# Altium integrated library altera-stratix-iv.IntLib: 38 symbols (part 3 of 21)
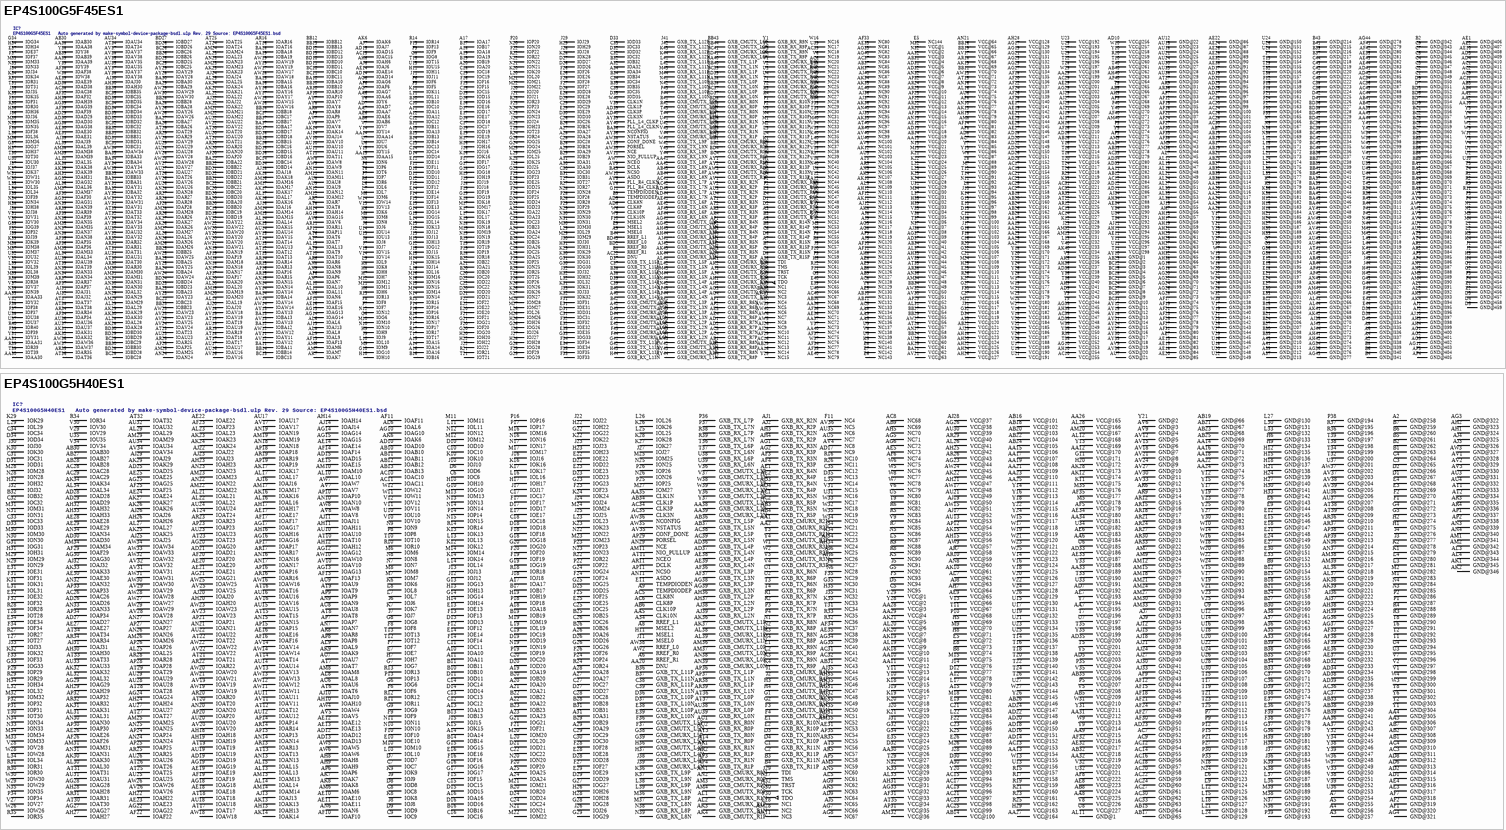
[diagram p18: symbols EP4S100G5F45ES1 to EP4S100G5H40ES1]

## EP4S100G5F45ES1
designator IC?, comment EP4S100G5F45ES1   Auto generated by make-symbol-device-package-bsdl.ulp Rev. 29 Source: EP4S100G5F45ES1.bsd
OC_FARNELL: unknown; OC_NEWARK: unknown
footprint FBGA1932
pins: A2 GND@338 (power), A3 GXB_CMUTX_R7N, A4 GND@337 (power), A5 GXB_RX_R14N, A6 GND@336 (power), A7 GXB_RX_R15N, A8 GND@335 (power), A9 MSEL0, A10 NC4, A11 IOA11, A12 IOA12, A13 IOA13, A14 IOA14, A15 IOA15, A16 IOA16, A17 IOA17, A18 IOA18, A19 IOA19, A20 IOA20, A21 IOA21, A22 IOA22, A23 IOA23, A24 IOA24, A25 IOA25, A26 IOA26, A27 IOA27, A28 IOA28, A29 IOA29, A30 IOA30, A31 IOA31, A32 IOA32, A33 VCC@120 (power), A34 IOA34, A35 NC1, A36 TDI, A37 GND@213 (power), A38 GXB_RX_L15N, A39 GND@212 (power), A40 GXB_RX_L14N, A41 GND@211 (power), A42 GXB_CMUTX_L7N, A43 GND@210 (power), AA1 GND@417 (power), AA2 GND@418 (power), AA3 GXB_TX_R8N, AA4 GXB_TX_R8P, AA5 NC136, AA6 IOAA6, AA7 IOAA7, AA8 NC134, AA9 NC135, AA10 GND@419 (power), AA11 VCC@282 (power), AA12 NC44, AA13 VCC@20 (power), AA14 IOAA14, AA15 IOAA15, AA16 NC14, AA17 VCC@164 (power), AA18 GND@115 (power), AA19 VCC@165 (power), AA20 GND@116 (power), AA21 VCC@166 (power), AA22 GND@117 (power), AA23 VCC@167 (power), AA24 GND@118 (power), AA25 VCC@168 (power), AA26 GND@119 (power), AA27 VCC@169 (power), AA28 GND@120 (power), AA29 VCC@199 (power), AA30 IOAA30, AA31 IOAA31, AA32 VCC@3 (power), AA33 IOAA33, AA34 VCC@277 (power), AA35 GND@292 (power), AA36 NC69, AA37 NC72, AA38 IOAA38, AA39 IOAA39, AA40 NC74, AA41 GXB_TX_L8P, AA42 GXB_TX_L8N, AA43 GND@293 (power), AA44 GND@294 (power), AB1 GXB_RX_R8N, AB2 GXB_RX_R8P, AB3 GND@415 (power), AB4 GND@416 (power), AB5 VCC@266 (power), AB6 IOAB6, AB7 GND@104 (power), AB8 NC126, AB9 NC127, AB10 NC131, AB11 NC132, AB12 VCC@283 (power), AB13 GND@105 (power), AB14 VCC@19 (power), AB15 GND@106 (power), AB16 VCC@212 (power), AB17 GND@107 (power), AB18 VCC@159 (power), AB19 GND@108 (power), AB20 VCC@160 (power), AB21 GND@109 (power), AB22 VCC@121 (power), AB23 GND@2 (power), AB24 VCC@161 (power), AB25 GND@110 (power), AB26 VCC@162 (power), AB27 GND@111 (power), AB28 VCC@163 (power), AB29 NC13, AB30 IOAB30, AB31 VCC@4 (power), AB32 GND@112 (power), AB33 VCC@278 (power), AB34 VCC@41 (power), AB35 GND@113 (power), AB36 NC68, AB37 NC85, AB38 GND@114 (power), AB39 IOAB39, AB40 VCC@262 (power), AB41 GND@290 (power), AB42 GND@291 (power), AB43 GXB_RX_L8P, AB44 GXB_RX_L8N, AC1 GND@411 (power), AC2 GND@412 (power), AC3 GXB_TX_R7N, AC4 GXB_TX_R7P, AC5 NC133, AC6 NC20, AC7 VCC@84 (power), AC8 NC128, AC9 GND@413 (power), AC10 VCC@255 (power), AC11 GND@414 (power), AC12 VCC@284 (power), AC13 VCC@226 (power), AC14 VCC@227 (power), AC15 IOAC15, AC16 NC12, AC17 VCC@153 (power), AC18 GND@98 (power), AC19 VCC@154 (power), AC20 GND@99 (power), AC21 VCC@155 (power), AC22 DNU, AC23 VCC@156 (power), AC24 GND@100 (power), AC25 VCC@157 (power), AC26 GND@101 (power), AC27 VCC@158 (power), AC28 GND@102 (power), AC29 VCC@200 (power), AC30 GND@103 (power), AC31 VCC@221 (power), AC32 VCC@222 (power), AC33 VCC@279 (power), AC34 GND@286 (power), AC35 VCC@247 (power), AC36 GND@287 (power), AC37 NC84, AC38 IOAC38, AC39 NC18, AC40 NC67, AC41 GXB_TX_L7P, AC42 GXB_TX_L7N, AC43 GND@288 (power), AC44 GND@289 (power), AD1 GXB_RX_R7N, AD2 GXB_RX_R7P, AD3 GND@409 (power), AD4 GND@410 (power), AD5 CLK8N, AD6 CLK8P, AD7 IOAD7, AD8 VCC@83 (power), AD9 VCC@242 (power), AD10 VCC@256 (power), AD11 VCC@286 (power), AD12 VCC@285 (power), AD13 VCC@18 (power), AD14 IOAD14, AD15 IOAD15, AD16 VCC@211 (power), AD17 GND@92 (power), AD18 VCC@147 (power), AD19 GND@93 (power), AD20 VCC@148 (power), AD21 GND@94 (power), AD22 VCC@149 (power), AD23 GND@95 (power), AD24 VCC@150 (power), AD25 GND@96 (power), AD26 VCC@151 (power), AD27 GND@97 (power), AD28 VCC@152 (power), AD29 IOAD29, AD30 IOAD30, AD31 VCC@5 (power), AD32 VCC@6 (power), AD33 VCC@281 (power), AD34 VCC@280 (power), AD35 VCC@248 (power), AD36 VCC@238 (power), AD37 VCC@40 (power), AD38 IOAD38, AD39 CLK3P, AD40 CLK3N, AD41 GND@284 (power), AD42 GND@285 (power), AD43 GXB_RX_L7P, AD44 GXB_RX_L7N, AE1 GND@406 (power), AE2 GND@407 (power), AE3 GXB_TX_R6N, AE4 GXB_TX_R6P, AE5 NC130, AE6 IOAE6, AE7 GND@81 (power), AE8 NC124, AE9 NC125, AE10 GND@408 (power), AE11 VCC@295 (power), AE12 VCC@17 (power), AE13 GND@82 (power), AE14 IOAE14, AE15 GND@83 (power), AE16 IOAE16, AE17 VCC@141 (power), AE18 GND@84 (power), AE19 VCC@142 (power), AE20 GND@85 (power), AE21 VCC@143 (power), AE22 GND@86 (power), AE23 VCC@144 (power), AE24 GND@87 (power), AE25 VCC@145 (power), AE26 GND@88 (power), AE27 VCC@146 (power), AE28 GND@89 (power), AE29 VCC@201 (power), AE30 IOAE30, AE31 IOAE31, AE32 GND@90 (power), AE33 NC81, AE34 VCC@289 (power), AE35 GND@281 (power), AE36 NC71, AE38 GND@91 (power), AE39 IOAE39, AE40 NC79, AE41 GXB_TX_L6P, AE42 GXB_TX_L6N, AE43 GND@282 (power), AE44 GND@283 (power), AF1 GXB_RX_R6N, AF2 GXB_RX_R6P, AF3 GND@404 (power), AF4 GND@405 (power), AF5 VCC@275 (power), AF6 IOAF6, AF8 VCC@82 (power), AF9 NC119, AF10 NC121, AF11 NC122, AF12 NC111, AF13 IOAF13, AF14 VCC@81 (power), AF15 IOAF15, AF16 VCC@210 (power), AF17 GND@74 (power), AF18 VCC@135 (power), AF19 GND@75 (power), AF20 VCC@136 (power), AF21 GND@76 (power), AF22 VCC@137 (power), AF23 GND@77 (power), AF24 VCC@138 (power), AF25 GND@78 (power), AF26 VCC@139 (power), AF27 GND@79 (power), AF28 VCC@140 (power), AF29 NC11, AF30 IOAF30, AF31 GND@80 (power), AF32 IOAF32, AF33 NC80, AF34 NC77, AF35 NC78, AF36 NC70, AF37 NC75, AF38 IOAF38, AF39 IOAF39, AF40 VCC@271 (power), AF41 GND@279 (power), AF42 GND@280 (power), AF43 GXB_RX_L6P, AF44 GXB_RX_L6N, AG1 GND@400 (power), AG2 GND@401 (power), AG3 GXB_CMUTX_R3N, AG4 GXB_CMUTX_R3P, AG5 NC117, AG6 IOAG6, AG7 IOAG7, AG8 NC118, AG9 GND@402 (power), AG10 VCC@253 (power), AG11 GND@403 (power), AG13 IOAG13, AG14 IOAG14, AG15 IOAG15, AG16 GND@67 (power), AG17 VCC@129 (power), AG18 GND@68 (power), AG19 VCC@130 (power), AG20 GND@69 (power), AG21 VCC@131 (power), AG22 GND@70 (power), AG23 VCC@132 (power), AG24 GND@71 (power), AG25 VCC@133 (power), AG26 GND@72 (power), AG27 VCC@134 (power), AG28 GND@73 (power), AG29 VCC@202 (power), AG31 IOAG31, AG32 IOAG32, AG33 NC82, AG34 GND@275 (power), AG35 VCC@245 (power), AG36 GND@276 (power), AG37 VCC@39 (power), AG38 IOAG38, AG39 IOAG39, AG40 NC83, AG41 GXB_CMUTX_L3P, AG42 GXB_CMUTX_L3N, AG43 GND@277 (power), AG44 GND@278 (power), AH1 GXB_CMURX_R3N, AH2 GXB_CMURX_R3P, AH3 GND@398 (power), AH4 GND@399 (power), AH5 VCC@267 (power), AH6 IOAH6, AH7 GND@56 (power), AH8 NC123, AH9 VCC@241 (power), AH10 VCC@254 (power), AH11 VCC@294 (power), AH12 NC110, AH13 GND@57 (power), AH14 IOAH14, AH15 VCC@79 (power), AH16 VCC@209 (power), AH17 GND@58 (power), AH18 VCC@123 (power), AH19 GND@59 (power), AH20 VCC@124 (power), AH21 GND@60 (power), AH22 VCC@125 (power), AH23 GND@61 (power), AH24 VCC@126 (power), AH25 GND@62 (power), AH26 VCC@127 (power), AH27 GND@63 (power), AH28 VCC@128 (power), AH29 GND@64 (power), AH30 IOAH30, AH31 IOAH31, AH32 GND@65 (power), AH33 VCC@43 (power), AH34 VCC@288 (power), AH35 VCC@246 (power), AH36 VCC@237 (power), AH37 NC86, AH38 GND@66 (power), AH39 IOAH39, AH40 VCC@263 (power), AH41 GND@273 (power), AH42 GND@274 (power), AH43 GXB_CMURX_L3P, AH44 GXB_CMURX_L3N, AJ1 GND@395 (power), AJ2 GND@396 (power), AJ3 GXB_CMUTX_R2N, AJ4 GXB_CMUTX_R2P, AJ5 NC120, AJ6 IOAJ6, AJ7 IOAJ7, AJ8 NC115, AJ9 NC116, AJ10 GND@397 (power), AJ11 VCC@293 (power), AJ12 NC113, AJ13 IOAJ13, AJ14 IOAJ14, AJ15 GND@55 (power), AJ16 IOAJ16, AJ17 VCC@208 (power), AJ18 IOAJ18, AJ19 VCC@207 (power), AJ20 IOAJ20, AJ21 VCC@206 (power), AJ22 IOAJ22, AJ23 VCC@122 (power), AJ24 IOAJ24, AJ25 VCC@205 (power), AJ26 NC9, AJ27 VCC@204 (power), AJ28 NC10, AJ29 VCC@203 (power), AJ30 IOAJ30, AJ31 IOAJ31, AJ32 IOAJ32, AJ33 NC95, AJ34 VCC@287 (power), AJ35 GND@270 (power), AJ36 NC91, AJ37 NC92, AJ38 VCC@38 (power), AJ39 IOAJ39, AJ40 NC87, AJ41 GXB_CMUTX_L2P, AJ42 GXB_CMUTX_L2N, AJ43 GND@271 (power), AJ44 GND@272 (power), AK1 GXB_CMURX_R2N, AK2 GXB_CMURX_R2P, AK3 GND@393 (power), AK4 GND@394 (power), AK5 VCC@236 (power), AK6 IOAK6, AK7 IOAK7, AK8 NC114, AK9 NC107, AK10 NC108, AK11 NC112, AK12 NC102, AK13 VCC@78 (power), AK14 IOAK14, AK15 IOAK15, AK16 IOAK16, AK17 IOAK17, AK18 IOAK18, AK19 VCC@69 (power), AK20 IOAK20, AK21 IOAK21, AK22 IOAK22, AK23 IOAK23, AK24 IOAK24, AK25 VCC@61 (power), AK26 IOAK26, AK27 IOAK27, AK28 IOAK28, AK29 IOAK29, AK30 IOAK30, AK31 IOAK31, AK32 IOAK32, AK33 NC96, AK34 NC88, AK35 NC89, AK36 NC93, AK38 IOAK38, AK39 IOAK39, AK40 VCC@234 (power), AK41 GND@268 (power), AK42 GND@269 (power), AK43 GXB_CMURX_L2P, AK44 GXB_CMURX_L2N, AL1 GND@391 (power), AL2 GND@392 (power), AL3 GXB_TX_R5N, AL4 GXB_TX_R5P, AL5 NC109, AL6 IOAL6, AL7 GND@45 (power), AL8 IOAL8, AL9 IOAL9, AL10 IOAL10, AL11 IOAL11, AL12 GND@46 (power), AL13 IOAL13, AL14 IOAL14, AL15 GND@47 (power), AL16 VCC@74 (power), AL17 IOAL17, AL18 GND@48 (power), AL19 IOAL19, AL20 IOAL20, AL21 GND@49 (power), AL22 IOAL22, AL23 IOAL23, AL24 GND@50 (power), AL25 IOAL25, AL26 IOAL26, AL27 GND@51 (power), AL28 IOAL28, AL29 IOAL29, AL30 GND@52 (power), AL31 VCC@53 (power), AL32 IOAL32, AL33 GND@53 (power), AL34 IOAL34, AL35 IOAL35, AL36 IOAL36, AL37 VCC@42 (power), AL38 GND@54 (power), AL39 IOAL39, AL40 NC90, AL41 GXB_TX_L5P, AL42 GXB_TX_L5N, AL43 GND@266 (power), AL44 GND@267 (power), AM1 GXB_RX_R5N, AM2 GXB_RX_R5P, AM3 GND@389 (power), AM4 GND@390 (power), AM5 VCC@276 (power), AM6 IOAM6, AM7 IOAM7, AM8 VCC@80 (power), AM9 GND@43 (power), AM11 IOAM11, AM12 IOAM12, AM13 VCC@231 (power), AM14 IOAM14, AM15 IOAM15, AM16 IOAM16, AM17 IOAM17, AM18 IOAM18, AM19 IOAM19, AM20 IOAM20, AM21 IOAM21, AM22 IOAM22, AM23 IOAM23, AM24 IOAM24, AM25 IOAM25, AM26 IOAM26, AM27 IOAM27, AM28 IOAM28, AM29 IOAM29, AM30 IOAM30, AM31 IOAM31, AM32 VCC@230 (power), AM33 IOAM33, AM34 VCC@48 (power), AM35 IOAM35, AM36 GND@44 (power), AM37 IOAM37, AM38 IOAM38, AM39 IOAM39, AM40 VCC@272 (power), AM41 GND@264 (power), AM42 GND@265 (power), AM43 GXB_RX_L5P, AM44 GXB_RX_L5N, AN1 GND@387 (power), AN2 GND@388 (power), AN3 GXB_TX_R4N, AN4 GXB_TX_R4P, AN5 NC106, AN6 IOAN6, AN7 IOAN7, AN8 IOAN8, AN9 IOAN9, AN10 VCC@77 (power), AN11 IOAN11, AN12 IOAN12, AN13 VCC@16 (power), AN14 IOAN14, AN15 IOAN15, AN16 VCC@73 (power), AN17 IOAN17, AN18 IOAN18, AN19 IOAN19, AN20 IOAN20, AN21 VCC@64 (power), AN23 IOAN23, AN24 IOAN24, AN26 IOAN26, AN27 VCC@58 (power), AN28 IOAN28, AN29 IOAN29, AN30 IOAN30, AN31 IOAN31, AN32 VCC@7 (power), AN33 IOAN33, AN34 IOAN34, AN35 IOAN35, AN36 VCC@47 (power), AN37 IOAN37, AN38 IOAN38, AN39 IOAN39, AN40 NC94, AN41 GXB_TX_L4P, AN42 GXB_TX_L4N, AN43 GND@262 (power), AN44 GND@263 (power), AP1 GXB_RX_R4N, AP2 GXB_RX_R4P, AP3 GND@385 (power), AP4 GND@386 (power), AP5 VCC@268 (power), AP6 IOAP6, AP7 GND@33 (power), AP8 VCC@76 (power), AP9 IOAP9, AP10 IOAP10, AP11 IOAP11, AP12 GND@34 (power), AP13 VCC@15 (power), AP15 GND@35 (power), AP16 IOAP16, AP17 IOAP17, AP18 GND@36 (power), AP19 IOAP19, AP20 IOAP20, AP21 GND@37 (power), AP22 VCC@12 (power), AP23 VCC@11 (power), AP24 GND@38 (power), AP25 IOAP25, AP27 GND@39 (power), AP28 IOAP28, AP29 VCC@52 (power), AP30 GND@40 (power), AP32 VCC@8 (power), AP33 GND@41 (power), AP34 IOAP34, AP35 IOAP35, AP36 IOAP36, AP37 IOAP37, AP38 GND@42 (power), AP39 IOAP39, AP40 VCC@264 (power), AP41 GND@260 (power), AP42 GND@261 (power), AP43 GXB_RX_L4P, AP44 GXB_RX_L4N, AR1 GND@383 (power), AR2 GND@384 (power), AR3 GXB_TX_R3N, AR4 GXB_TX_R3P, AR5 NC105, AR6 IOAR6, AR7 IOAR7, AR8 IOAR8, AR9 GND@31 (power), AR10 IOAR10, AR11 IOAR11, AR12 VCC@225 (power), AR13 IOAR13, AR14 IOAR14, AR15 IOAR15, AR16 IOAR16, AR18 VCC@68 (power), AR19 IOAR19, AR20 IOAR20, AR21 VCC@14 (power), AR22 VCC@13 (power), AR23 VCC@10 (power), AR24 VCC@9 (power), AR25 IOAR25, AR26 IOAR26, AR27 IOAR27, AR28 IOAR28, AR29 IOAR29, AR30 IOAR30, AR31 IOAR31, AR32 IOAR32, AR33 VCC@223 (power), AR34 IOAR34, AR35 IOAR35, AR36 GND@32 (power), AR37 IOAR37, AR38 VCC@46 (power), AR39 IOAR39, AR40 NC98, AR41 GXB_TX_L3P, AR42 GXB_TX_L3N, AR43 GND@258 (power), AR44 GND@259 (power), AT1 GXB_RX_R3N, AT2 GXB_RX_R3P, AT3 GND@381 (power), AT4 GND@382 (power), AT5 NC104, AT6 IOAT6, AT7 IOAT7, AT8 IOAT8, AT9 IOAT9, AT10 IOAT10, AT11 IOAT11, AT12 IOAT12, AT13 IOAT13, AT14 IOAT14, AT15 VCC@72 (power), AT16 IOAT16, AT17 IOAT17, AT18 IOAT18, AT19 IOAT19, AT20 IOAT20, AT21 IOAT21, AT22 VCC@224 (power), AT23 IOAT23, AT24 IOAT24, AT25 IOAT25, AT26 IOAT26, AT27 GND@30 (power), AT28 VCC@57 (power), AT29 IOAT29, AT30 IOAT30, AT31 IOAT31, AT32 IOAT32, AT33 IOAT33, AT34 IOAT34, AT35 VCC@45 (power), AT36 IOAT36, AT37 IOAT37, AT38 IOAT38, AT39 IOAT39, AT40 NC97, AT41 GND@256 (power), AT42 GND@257 (power), AT43 GXB_RX_L3P, AT44 GXB_RX_L3N, AU1 GND@379 (power), AU2 GND@380 (power), AU3 GXB_TX_R2N, AU4 GXB_TX_R2P, AU5 NC103, AU6 VCC@75 (power), AU7 GND@21 (power), AU8 IOAU8, AU9 IOAU9, AU10 IOAU10, AU11 IOAU11, AU12 GND@22 (power), AU13 IOAU13, AU14 IOAU14, AU15 GND@23 (power), AU16 IOAU16, AU17 IOAU17, AU18 GND@24 (power), AU19 IOAU19, AU20 IOAU20, AU21 GND@25 (power), AU22 IOAU22, AU23 IOAU23, AU24 GND@26 (power), AU25 VCC@60 (power), AU26 IOAU26, AU27 IOAU27, AU28 IOAU28, AU29 IOAU29, AU30 GND@27 (power), AU31 IOAU31, AU32 IOAU32, AU33 GND@28 (power), AU34 IOAU34, AU35 IOAU35, AU36 IOAU36, AU37 IOAU37, AU38 GND@29 (power), AU39 IOAU39, AU40 NC100, AU41 GXB_TX_L2P, AU42 GXB_TX_L2N, AU43 GND@254 (power), AU44 GND@255 (power), AV1 GXB_RX_R2N, AV2 GXB_RX_R2P, AV3 GND@377 (power), AV4 GND@378 (power), AV5 NC101, AV6 IOAV6, AV7 IOAV7, AV8 IOAV8, AV9 GND@19 (power), AV10 IOAV10, AV11 NIO_PULLUP, AV12 IOAV12, AV13 IOAV13, AV14 IOAV14, AV15 IOAV15, AV16 IOAV16, AV17 VCC@67 (power), AV18 IOAV18, AV19 IOAV19, AV20 IOAV20, AV21 VCC@63 (power), AV22 IOAV22, AV23 IOAV23, AV24 IOAV24, AV25 IOAV25, AV26 IOAV26, AV27 IOAV27, AV28 IOAV28, AV29 IOAV29, AV30 VCC@51 (power), AV31 IOAV31, AV32 IOAV32, AV33 IOAV33, AV34 IOAV34, AV35 IOAV35, AV36 GND@20 (power), AV37 IOAV37, AV38 IOAV38, AV39 VCC@44 (power), AV40 NC99, AV41 GND@252 (power), AV42 GND@253 (power), AV43 GXB_RX_L2P, AV44 GXB_RX_L2N, AW1 GND@375 (power), AW2 GND@376 (power), AW3 GXB_CMUTX_R1N, AW4 GXB_CMUTX_R1P, AW5 NC8, AW6 NC7, AW7 NCEO, AW8 IOAW8, AW9 IOAW9, AW10 ASDO, AW11 NC3, AW12 IOAW12, AW13 VCC@71 (power), AW14 IOAW14, AW15 IOAW15, AW16 IOAW16, AW17 IOAW17, AW18 IOAW18, AW19 IOAW19, AW20 IOAW20, AW21 IOAW21, AW22 IOAW22, AW23 IOAW23, AW24 IOAW24, AW25 IOAW25, AW26 IOAW26, AW27 VCC@56 (power), AW28 IOAW28, AW29 IOAW29, AW30 IOAW30, AW31 IOAW31, AW32 VCC@50 (power), AW33 IOAW33, AW34 IOAW34, AW35 NCE, AW36 IOAW36, AW37 IOAW37, AW38 CONF_DONE, AW39 NC5, AW40 NC6, AW41 GXB_CMUTX_L1P, AW42 GXB_CMUTX_L1N, AW43 GND@250 (power), AW44 GND@251 (power), AY1 GXB_CMURX_R1N, AY2 GXB_CMURX_R1P, AY3 GND@373 (power), AY4 GND@374 (power), AY5 PLL_R4_CLKN, AY6 PLL_R4_CLKP, AY7 IOAY7, AY8 IOAY8, AY9 DCLK, AY10 GND@1 (power), AY11 IOAY11, AY12 GND@11 (power), AY13 IOAY13, AY14 IOAY14, AY15 GND@12 (power), AY16 IOAY16, AY17 IOAY17, AY18 GND@13 (power), AY19 IOAY19, AY20 IOAY20, AY21 GND@14 (power), AY22 IOAY22, AY23 IOAY23, AY24 GND@15 (power), AY25 IOAY25, AY26 IOAY26, AY27 GND@16 (power), AY28 IOAY28, AY29 IOAY29, AY30 GND@17 (power), AY31 IOAY31, AY32 IOAY32, AY33 GND@18 (power), AY34 IOAY34, AY35 PORSEL, AY36 NSTATUS, AY37 IOAY37, AY38 IOAY38, AY39 PLL_L4_CLKP, AY40 PLL_L4_CLKN, AY41 GND@248 (power), AY42 GND@249 (power), AY43 GXB_CMURX_L1P, AY44 GXB_CMURX_L1N, B1 RREF_R1, B2 GND@342 (power), B3 GXB_CMUTX_R7P, B4 GND@341 (power), B5 GXB_RX_R14P, B6 GND@340 (power), B7 GXB_RX_R15P, B8 GND@339 (power), B9 TEMPDIODEP, B10 IOB10, B11 IOB11, B12 GND@202 (power), B13 IOB13, B14 IOB14, B15 GND@203 (power), B16 IOB16, B17 IOB17, B18 GND@204 (power), B19 IOB19, B20 IOB20, B21 GND@205 (power), B22 IOB22, B23 IOB23, B24 GND@206 (power), B25 IOB25, B26 IOB26, B27 GND@207 (power), B28 IOB28, B29 IOB29, B30 GND@208 (power), B31 IOB31, B32 IOB32, B33 GND@209 (power), B34 IOB34, B35 IOB35, B36 TMS, B37 GND@217 (power), B38 GXB_RX_L15P, B39 GND@216 (power), B40 GXB_RX_L14P, B41 GND@215 (power), B42 GXB_CMUTX_L7P, B43 GND@214 (power), B44 RREF_L1, BA1 GND@367 (power), BA2 GND@368 (power), BA3 GND@369 (power), BA4 GND@370 (power), BA5 GXB_TX_R1P, BA6 GND@371 (power), BA7 GXB_TX_R0P, BA8 GND@372 (power), BA9 NCSO, BA10 IOBA10, BA11 IOBA11, BA12 IOBA12, BA13 IOBA13, BA14 IOBA14, BA15 IOBA15, BA16 IOBA16, BA17 IOBA17, BA18 IOBA18, BA19 IOBA19, BA20 IOBA20, BA21 VCC@62 (power), BA22 IOBA22, BA23 IOBA23, BA24 IOBA24, BA25 IOBA25, BA26 IOBA26, BA27 IOBA27, BA28 IOBA28, BA29 IOBA29, BA30 IOBA30, BA31 IOBA31, BA32 IOBA32, BA33 IOBA33, BA34 IOBA34, BA35 NC2, BA36 NCONFIG, BA37 GND@242 (power), BA38 GXB_TX_L0P, BA39 GND@243 (power), BA40 GXB_TX_L1P, BA41 GND@244 (power), BA42 GND@245 (power), BA43 GND@246 (power), BA44 GND@247 (power), BB1 GXB_CMURX_R0N, BB2 GXB_CMURX_R0P, BB3 GND@362 (power), BB4 GND@363 (power), BB5 GXB_TX_R1N, BB6 GND@364 (power), BB7 GXB_TX_R0N, BB8 GND@365 (power), BB9 GND@366 (power), BB10 IOBB10, BB11 VCC@70 (power), BB12 IOBB12, BB13 IOBB13, BB14 IOBB14, BB15 IOBB15, BB16 VCC@65 (power), BB17 IOBB17, BB18 IOBB18, BB19 VCC@66 (power), BB20 IOBB20, BB21 IOBB21, BB22 IOBB22, BB23 IOBB23, BB24 VCC@59 (power), BB25 IOBB25, BB26 IOBB26, BB27 VCC@54 (power), BB28 IOBB28, BB29 VCC@55 (power), BB30 IOBB30, BB31 IOBB31, BB32 IOBB32, BB33 IOBB33, BB34 VCC@49 (power), BB35 IOBB35, BB36 GND@237 (power), BB37 GND@238 (power), BB38 GXB_TX_L0N, BB39 GND@239 (power), BB40 GXB_TX_L1N, BB41 GND@240 (power), BB42 GND@241 (power), BB43 GXB_CMUTX_L0P, BB44 GXB_CMUTX_L0N, BC1 GND@356 (power), BC2 GND@357 (power), BC3 GND@358 (power), BC4 GXB_CMUTX_R0P, BC5 GND@359 (power), BC6 GXB_RX_R1P, BC7 GND@360 (power), BC8 GXB_RX_R0P, BC9 GND@361 (power), BC10 IOBC10, BC11 IOBC11, BC12 GND@3 (power), BC13 IOBC13, BC14 IOBC14, BC15 GND@4 (power), BC16 IOBC16, BC17 IOBC17, BC18 GND@5 (power), BC19 IOBC19, BC20 IOBC20, BC21 GND@6 (power), BC22 IOBC22, BC23 IOBC23, BC24 GND@7 (power), BC25 IOBC25, BC26 IOBC26, BC27 GND@8 (power), BC28 IOBC28, BC29 IOBC29, BC30 GND@9 (power), BC31 IOBC31, BC32 IOBC32, BC33 GND@10 (power), BC34 IOBC34, BC35 IOBC35, BC36 GND@231 (power), BC37 GXB_RX_L0P, BC38 GND@232 (power), BC39 GXB_RX_L1P, BC40 GND@233 (power), BC41 GXB_CMURX_L0P, BC42 GND@234 (power), BC43 GND@235 (power), BC44 GND@236 (power), BD2 RREF_R0, BD3 GND@352 (power), BD4 GXB_CMUTX_R0N, BD5 GND@353 (power), BD6 GXB_RX_R1N, BD7 GND@354 (power), BD8 GXB_RX_R0N, BD9 GND@355 (power), BD10 IOBD10, BD11 IOBD11, BD12 IOBD12, BD13 IOBD13, BD14 IOBD14, BD15 IOBD15, BD16 IOBD16, BD17 IOBD17, BD18 IOBD18, BD19 IOBD19, BD20 IOBD20, BD21 IOBD21, BD22 IOBD22, BD23 IOBD23, BD24 IOBD24, BD25 IOBD25, BD26 IOBD26, BD27 IOBD27, BD28 IOBD28, BD29 IOBD29, BD30 IOBD30, BD31 IOBD31, BD32 IOBD32, BD33 IOBD33, BD34 IOBD34, BD35 IOBD35, BD36 GND@227 (power), BD37 GXB_RX_L0N, BD38 GND@228 (power), BD39 GXB_RX_L1N, BD40 GND@229 (power), BD41 GXB_CMURX_L0N, BD42 GND@230 (power), BD43 RREF_L0, C1 GND@349 (power), C2 GND@348 (power), C3 GND@347 (power), C4 GND@346 (power), C5 GND@345 (power), C6 GXB_TX_R14N, C7 GND@344 (power), C8 GXB_TX_R15N, C9 GND@343 (power), C10 IOC10, C11 VCC@99 (power), C12 IOC12, C13 IOC13, C14 IOC14, C15 IOC15, C16 VCC@104 (power), C17 IOC17, C18 IOC18, C19 IOC19, C20 IOC20, C21 VCC@107 (power), C22 IOC22, C23 IOC23, C24 IOC24, C25 IOC25, C26 IOC26, C27 VCC@115 (power), C28 IOC28, C29 IOC29, C30 IOC30, C31 IOC31, C32 IOC32, C33 IOC33, C34 IOC34, C35 IOC35, C36 GND@224 (power), C37 GXB_TX_L15N, C38 GND@223 (power), C39 GXB_TX_L14N, C40 GND@222 (power), C41 GND@221 (power), C42 GND@220 (power), C43 GND@219 (power), C44 GND@218 (power), D1 GXB_CMURX_R7N, D2 GXB_CMURX_R7P, D3 GND@457 (power), D4 GND@458 (power), D5 GND@459 (power), D6 GXB_TX_R14P, D7 GND@351 (power), D8 GXB_TX_R15P, D9 GND@350 (power), D10 IOD10, D11 IOD11, D12 IOD12, D13 VCC@98 (power), D14 IOD14, D15 IOD15, D16 IOD16, D17 IOD17, D18 IOD18, D19 IOD19, D20 IOD20, D21 IOD21, D22 IOD22, D23 IOD23, D24 IOD24, D25 IOD25, D26 IOD26, D27 IOD27, D28 IOD28, D29 IOD29, D30 IOD30, D31 IOD31, D32 IOD32, D33 IOD33, D34 VCC@119 (power), D35 IOD35, D36 GND@332 (power), D37 GXB_TX_L15P, D38 GND@333 (power), D39 GXB_TX_L14P, D40 GND@334 (power), D41 GND@226 (power), D42 GND@225 (power), D43 GXB_CMURX_L7P, D44 GXB_CMURX_L7N, E1 GND@455 (power), E2 GND@456 (power), E3 GXB_CMUTX_R6N, E4 GXB_CMUTX_R6P, E5 NC144, E6 NC143, E7 NC142, E8 NC141, E9 MSEL1, E10 VCC@97 (power), E11 IOE11, E12 GND@194 (power), E13 IOE13, E14 IOE14, E15 GND@195 (power), E16 IOE16, E17 IOE17, E18 GND@196 (power), E19 IOE19, E20 IOE20, E21 GND@197 (power), E22 IOE22, E23 VCC@110 (power), E24 GND@198 (power), E25 IOE25, E26 IOE26, E27 GND@199 (power), E28 IOE28, E29 IOE29, E30 GND@200 (power), E31 IOE31, E32 IOE32, E33 GND@201 (power), E34 IOE34, E35 IOE35, E36 TDO (out), E37 IOE37, E38 NC21, E39 NC65, E40 NC64, E41 GXB_CMUTX_L6P, E42 GXB_CMUTX_L6N, E43 GND@330 (power), E44 GND@331 (power), F1 GXB_CMURX_R6N, F2 GXB_CMURX_R6P, F3 GND@453 (power), F4 GND@454 (power), F5 IOF5, F6 IOF6, F7 IOF7, F8 IOF8, F9 IOF9, F10 MSEL2, F11 IOF11, F12 IOF12, F13 IOF13, F14 IOF14, F15 IOF15, F16 IOF16, F17 IOF17, F18 VCC@103 (power), F19 IOF19, F20 IOF20, F21 IOF21, F22 IOF22, F23 IOF23, F24 IOF24, F25 IOF25, F26 IOF26, F27 IOF27, F28 IOF28, F29 IOF29, F30 VCC@114 (power), F31 IOF31, F32 IOF32, F33 IOF33, F34 IOF34, F35 IOF35, F36 TRST, F37 IOF37, F38 IOF38, F39 IOF39, F40 NC24, F41 GND@328 (power), F42 GND@329 (power), F43 GXB_CMURX_L6P, F44 GXB_CMURX_L6N, G1 GND@451 (power), G2 GND@452 (power), G3 GXB_TX_R13N, G4 GXB_TX_R13P, G5 NC63, G6 IOG6, G7 GND@190 (power), G8 IOG8, G9 GND@191 (power), G10 IOG10, G11 TEMPDIODEN, G12 IOG12, G13 VCC@96 (power), G14 IOG14, G15 IOG15, G16 VCC@102 (power), G17 IOG17, G18 IOG18, G19 IOG19, G20 IOG20, G21 IOG21, G22 VCC@106 (power), G23 IOG23, G24 IOG24, G25 IOG25, G26 IOG26, G27 VCC@113 (power), G28 IOG28, G29 IOG29, G30 IOG30, G31 IOG31, G32 VCC@118 (power), G33 IOG33, G34 IOG34, G35 TCK, G36 GND@192 (power), G37 IOG37, G38 GND@193 (power), G39 IOG39, G40 NC26, G41 GXB_TX_L13P, G42 GXB_TX_L13N, G43 GND@326 (power), G44 GND@327 (power), H1 GXB_RX_R13N, H2 GXB_RX_R13P, H3 GND@449 (power), H4 GND@450 (power), H5 NC60, H6 IOH6, H7 IOH7, H8 IOH8, H9 IOH9, H10 IOH10, H11 IOH11, H12 GND@182 (power), H13 IOH13, H14 IOH14, H15 GND@183 (power), H16 IOH16, H17 IOH17, H18 GND@184 (power), H19 IOH19, H20 IOH20, H21 GND@185 (power), H22 IOH22, H23 IOH23, H24 GND@186 (power), H25 VCC@109 (power), H26 IOH26, H27 GND@187 (power), H28 IOH28, H29 IOH29, H30 GND@188 (power), H31 IOH31, H32 IOH32, H33 GND@189 (power), H34 IOH34, H35 VCC@32 (power), H36 IOH36, H37 IOH37, H38 IOH38, H39 VCC@33 (power), H40 NC22, H41 GND@324 (power), H42 GND@325 (power), H43 GXB_RX_L13P, H44 GXB_RX_L13N, J1 GND@447 (power), J2 GND@448 (power), J3 GXB_TX_R12N, J4 GXB_TX_R12P, J5 NC57, J6 IOJ6, J7 IOJ7, J8 IOJ8, J9 IOJ9, J10 VCC@94 (power), J11 IOJ11, J12 IOJ12, J13 IOJ13, J14 IOJ14, J15 IOJ15, J16 IOJ16, J17 VCC@101 (power), J18 IOJ18, J19 IOJ19, J20 IOJ20, J21 IOJ21, J22 IOJ22, J23 VCC@229 (power), J24 IOJ24, J25 IOJ25, J26 IOJ26, J27 IOJ27, J28 IOJ28, J29 IOJ29, J30 IOJ30, J31 VCC@117 (power), J32 IOJ32, J33 IOJ33, J34 IOJ34, J35 IOJ35, J36 IOJ36, J37 IOJ37, J38 IOJ38, J39 IOJ39, J40 NC23, J41 GXB_TX_L12P, J42 GXB_TX_L12N, J43 GND@322 (power), J44 GND@323 (power), K1 GXB_RX_R12N, K2 GXB_RX_R12P, K3 GND@445 (power), K4 GND@446 (power), K5 NC140, K6 IOK6, K7 GND@178 (power), K8 IOK8, K9 GND@179 (power), K11 IOK11, K12 VCC@228 (power), K13 IOK13, K14 VCC@95 (power), K15 IOK15, K16 IOK16, K17 IOK17, K18 IOK18, K19 IOK19, K20 IOK20, K21 VCC@23 (power), K22 VCC@24 (power), K23 VCC@27 (power), K24 VCC@28 (power), K25 IOK25, K26 IOK26, K27 VCC@112 (power), K28 IOK28, K29 IOK29, K30 IOK30, K31 IOK31, K32 IOK32, K33 VCC@220 (power), K34 IOK34, K35 IOK35, K36 GND@180 (power), K37 IOK37, K38 GND@181 (power), K39 IOK39, K40 NC35, K41 GND@320 (power), K42 GND@321 (power), K43 GXB_RX_L12P, K44 GXB_RX_L12N, L1 GND@443 (power), L2 GND@444 (power), L3 GXB_TX_R11N, L4 GXB_TX_R11P, L5 NC50, L6 IOL6, L7 IOL7, L8 VCC@93 (power), L9 IOL9, L10 IOL10, L11 IOL11, L12 GND@170 (power), L13 VCC@232 (power), L14 IOL14, L15 GND@171 (power), L16 IOL16, L17 IOL17, L18 GND@172 (power), L20 IOL20, L21 GND@173 (power), L22 VCC@25 (power), L23 VCC@26 (power), L24 GND@174 (power), L25 IOL25, L26 IOL26, L27 GND@175 (power), L29 IOL29, L30 GND@176 (power), L32 IOL32, L33 GND@177 (power), L34 IOL34, L35 IOL35, L36 IOL36, L37 VCC@31 (power), L38 IOL38, L39 IOL39, L40 NC36, L41 GXB_TX_L11P, L42 GXB_TX_L11N, L43 GND@318 (power), L44 GND@319 (power), M1 GXB_RX_R11N, M2 GXB_RX_R11P, M3 GND@441 (power), M4 GND@442 (power), M5 NC53, M6 IOM6, M7 VCC@89 (power), M8 IOM8, M9 IOM9, M10 IOM10, M11 IOM11, M12 IOM12, M13 VCC@22 (power), M14 IOM14, M16 IOM16, M17 IOM17, M18 VCC@100 (power), M19 IOM19, M21 IOM21, M22 IOM22, M24 VCC@108 (power), M25 IOM25, M26 IOM26, M27 IOM27, M28 IOM28, M29 IOM29, M30 IOM30, M31 VCC@116 (power), M32 VCC@1 (power), M33 IOM33, M34 VCC@30 (power), M35 IOM35, M36 IOM36, M37 IOM37, M38 IOM38, M39 IOM39, M40 NC32, M41 GND@316 (power), M42 GND@317 (power), M43 GXB_RX_L11P, M44 GXB_RX_L11N, N1 GND@439 (power), N2 GND@440 (power), N3 GXB_TX_R10N, N4 GXB_TX_R10P, N5 NC54, N6 ION6, N7 GND@166 (power), N8 ION8, N9 GND@167 (power), N10 ION10, N11 VCC@92 (power), N12 ION12, N13 VCC@21 (power), N14 ION14, N15 ION15, N16 ION16, N17 ION17, N18 ION18, N19 ION19, N20 ION20, N21 ION21, N22 ION22, N23 ION23, N24 ION24, N25 ION25, N26 ION26, N27 ION27, N28 ION28, N29 ION29, N30 ION30, N31 ION31, N32 VCC@2 (power), N33 ION33, N34 ION34, N35 ION35, N36 GND@168 (power), N37 VCC@37 (power), N38 GND@169 (power), N39 ION39, N40 NC41, N41 GXB_TX_L10P, N42 GXB_TX_L10N, N43 GND@314 (power), N44 GND@315 (power), P1 GXB_RX_R10N, P2 GXB_RX_R10P, P3 GND@437 (power), P4 GND@438 (power), P5 VCC@273 (power), P6 IOP6, P7 IOP7, P8 NC55, P9 NC59, P10 NC58, P11 NC62, P12 GND@158 (power), P13 IOP13, P14 IOP14, P15 GND@159 (power), P16 IOP16, P17 IOP17, P18 GND@160 (power), P19 IOP19, P20 IOP20, P21 GND@161 (power), P22 IOP22, P23 IOP23, P24 GND@162 (power), P25 IOP25, P26 IOP26, P27 GND@163 (power), P28 IOP28, P29 IOP29, P30 GND@164 (power), P31 IOP31, P32 IOP32, P33 GND@165 (power), P34 NC25, P35 NC29, P36 NC28, P37 IOP37, P38 IOP38, P39 IOP39, P40 VCC@269 (power), P41 GND@312 (power), P42 GND@313 (power), P43 GXB_RX_L10P, P44 GXB_RX_L10N, R1 GND@433 (power), R2 GND@434 (power), R3 GXB_CMUTX_R5N, R4 GXB_CMUTX_R5P, R5 NC45, R6 IOR6, R8 NC56, R9 GND@435 (power), R10 VCC@259 (power), R11 GND@436 (power), R12 NC61, R13 IOR13, R14 IOR14, R15 IOR15, R16 IOR16, R17 IOR17, R18 IOR18, R19 IOR19, R20 VCC@105 (power), R21 IOR21, R22 IOR22, R23 IOR23, R24 IOR24, R25 IOR25, R26 VCC@111 (power), R27 IOR27, R28 IOR28, R29 VCC@219 (power), R30 IOR30, R31 IOR31, R33 NC27, R34 GND@308 (power), R35 VCC@251 (power), R36 GND@309 (power), R37 NC39, R38 IOR38, R39 IOR39, R40 IOR40, R41 GXB_CMUTX_L5P, R42 GXB_CMUTX_L5N, R43 GND@310 (power), R44 GND@311 (power), T1 GXB_CMURX_R5N, T2 GXB_CMURX_R5P, T3 GND@431 (power), T4 GND@432 (power), T5 VCC@265 (power), T6 IOT6, T7 GND@153 (power), T8 VCC@88 (power), T9 VCC@244 (power), T10 VCC@260 (power), T11 VCC@298 (power), T12 VCC@90 (power), T13 GND@154 (power), T14 VCC@91 (power), T15 IOT15, T16 VCC@214 (power), T17 IOT17, T18 VCC@215 (power), T19 IOT19, T20 VCC@216 (power), T21 IOT21, T22 VCC@196 (power), T23 IOT23, T24 VCC@217 (power), T25 IOT25, T26 VCC@218 (power), T27 IOT27, T28 VCC@197 (power), T29 GND@155 (power), T30 IOT30, T31 IOT31, T32 GND@156 (power), T33 NC30, T34 VCC@292 (power), T35 VCC@252 (power), T36 VCC@240 (power), T37 VCC@36 (power), T38 GND@157 (power), T39 IOT39, T40 VCC@261 (power), T41 GND@306 (power), T42 GND@307 (power), T43 GXB_CMURX_L5P, T44 GXB_CMURX_L5N, U1 GND@428 (power), U2 GND@429 (power), U3 GXB_CMUTX_R4N, U4 GXB_CMUTX_R4P, U5 NC139, U6 IOU6, U7 IOU7, U8 NC42, U9 NC137, U10 GND@430 (power), U11 VCC@297 (power), U12 NC51, U13 IOU13, U14 IOU14, U15 IOU15, U16 GND@146 (power), U17 VCC@189 (power), U18 GND@147 (power), U19 VCC@190 (power), U20 GND@148 (power), U21 VCC@191 (power), U22 GND@149 (power), U23 VCC@192 (power), U24 GND@150 (power), U25 VCC@193 (power), U26 GND@151 (power), U27 VCC@194 (power), U28 GND@152 (power), U29 VCC@195 (power), U30 IOU30, U31 VCC@29 (power), U32 IOU32, U33 NC31, U34 VCC@291 (power), U35 GND@303 (power), U36 NC37, U37 IOU37, U38 IOU38, U39 NC17, U40 NC66, U41 GXB_CMUTX_L4P, U42 GXB_CMUTX_L4N, U43 GND@304 (power), U44 GND@305 (power), V1 GXB_CMURX_R4N, V2 GXB_CMURX_R4P, V3 GND@426 (power), V4 GND@427 (power), V5 VCC@235 (power), V6 NC19, V7 IOV7, V8 NC138, V9 NC47, V10 NC46, V11 NC49, V12 NC52, V13 IOV13, V14 IOV14, V15 IOV15, V16 VCC@182 (power), V17 GND@139 (power), V18 VCC@183 (power), V19 GND@140 (power), V20 VCC@184 (power), V21 GND@141 (power), V22 VCC@185 (power), V23 GND@142 (power), V24 VCC@186 (power), V25 GND@143 (power), V26 VCC@187 (power), V27 GND@144 (power), V28 VCC@188 (power), V29 GND@145 (power), V30 IOV30, V31 IOV31, V32 IOV32, V33 VCC@34 (power), V34 NC33, V35 NC38, V36 NC40, V37 IOV37, V38 VCC@35 (power), V39 CLK1P, V40 VCC@233 (power), V41 GND@301 (power), V42 GND@302 (power), V43 GXB_CMURX_L4P, V44 GXB_CMURX_L4N, W1 GND@422 (power), W2 GND@423 (power), W3 GXB_TX_R9N, W4 GXB_TX_R9P, W5 CLK10N, W6 CLK10P, W7 GND@128 (power), W8 VCC@87 (power), W9 GND@424 (power), W10 VCC@257 (power), W11 GND@425 (power), W12 NC48, W13 GND@129 (power), W14 IOW14, W15 GND@130 (power), W16 NC16, W17 VCC@176 (power), W18 GND@131 (power), W19 VCC@177 (power), W20 GND@132 (power), W21 VCC@178 (power), W22 GND@133 (power), W23 VCC@179 (power), W24 GND@134 (power), W25 VCC@180 (power), W26 GND@135 (power), W27 VCC@181 (power), W28 GND@136 (power), W29 VCC@198 (power), W30 IOW30, W31 IOW31, W32 GND@137 (power), W33 NC34, W34 GND@297 (power), W35 VCC@249 (power), W36 GND@298 (power), W37 NC76, W38 IOW38, W39 GND@138 (power), W40 CLK1N, W41 GXB_TX_L9P, W42 GXB_TX_L9N, W43 GND@299 (power), W44 GND@300 (power), Y1 GXB_RX_R9N, Y2 GXB_RX_R9P, Y3 GND@420 (power), Y4 GND@421 (power), Y5 VCC@274 (power), Y6 IOY6, Y7 VCC@85 (power), Y8 NC129, Y9 VCC@243 (power), Y10 VCC@258 (power), Y11 VCC@296 (power), Y12 NC43, Y13 VCC@86 (power), Y14 IOY14, Y15 IOY15, Y16 VCC@213 (power), Y17 GND@121 (power), Y18 VCC@170 (power), Y19 GND@122 (power), Y20 VCC@171 (power), Y21 GND@123 (power), Y22 VCC@172 (power), Y23 GND@124 (power), Y24 VCC@173 (power), Y25 GND@125 (power), Y26 VCC@174 (power), Y27 GND@126 (power), Y28 VCC@175 (power), Y29 NC15, Y30 GND@127 (power), Y31 IOY31, Y32 IOY32, Y34 VCC@290 (power), Y35 VCC@250 (power), Y36 VCC@239 (power), Y37 NC73, Y38 IOY38, Y39 IOY39, Y40 VCC@270 (power), Y41 GND@295 (power), Y42 GND@296 (power), Y43 GXB_RX_L9P, Y44 GXB_RX_L9N